# EAGLE library part RV8523 (library we-chip)
Micro Crystal RV-8523 RTC (Real Time Clock)
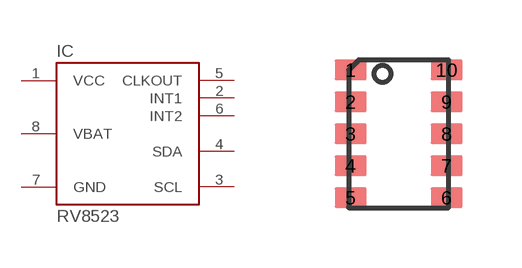
[diagram p11: symbol with the pads of RTC-C3; footprint RTC-C3]

Designator prefix IC

## RV8523-C3  [RTC-C3]
1  VCC  pwr
2  INT1
3  SCL
4  SDA
5  CLKOUT
6  INT2
7  GND  pwr
8  VBAT  pwr

## Footprint RTC-C3 (pad centres in mm)
smd 0.8 x 0.5: 1 -1.2,1.6; 2 -1.2,0.8; 3 -1.2,0; 4 -1.2,-0.8; 5 -1.2,-1.6; 6 1.2,-1.6; 7 1.2,-0.8; 8 1.2,0; 9 1.2,0.8; 10 1.2,1.6